# Altium footprint library DIP1543W47P254L5321H635Q40.PcbLib: 1 footprints
Each footprint in its own frame and in the unit in brackets; x right, y up, seen from the top. Pads: shape width x height; smd on the part's side, far side on the other; paste and mask are expansions set on the pad; w line width, h text height; cw(c..) or ccw(c..) is an arc to the next point about the centre after c.
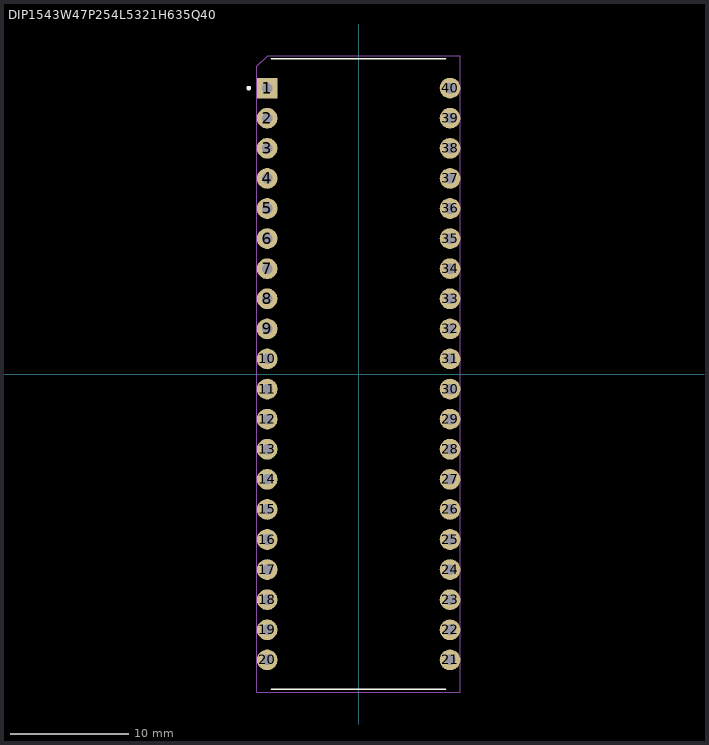
[diagram p0: the footprint, top view; thin cyan lines are the x and y axes]

## DIP1543W47P254L5321H635Q40 [mm]
height 1
pads (40):
  rect 1.75x1.75 hole 0.89: 1(-7.715,24.13)
  round 1.75 hole 0.89: 2(-7.715,21.59) 3(-7.715,19.05) 4(-7.715,16.51) 5(-7.715,13.97) 6(-7.715,11.43) 7(-7.715,8.89) 8(-7.715,6.35) 9(-7.715,3.81) 10(-7.715,1.27) 11(-7.715,-1.27) 12(-7.715,-3.81) 13(-7.715,-6.35) 14(-7.715,-8.89) 15(-7.715,-11.43) 16(-7.715,-13.97) 17(-7.715,-16.51) 18(-7.715,-19.05) 19(-7.715,-21.59) 20(-7.715,-24.13) 21(7.715,-24.13) 22(7.715,-21.59) 23(7.715,-19.05) 24(7.715,-16.51) 25(7.715,-13.97) 26(7.715,-11.43) 27(7.715,-8.89) 28(7.715,-6.35) 29(7.715,-3.81) 30(7.715,-1.27) 31(7.715,1.27) 32(7.715,3.81) 33(7.715,6.35) 34(7.715,8.89) 35(7.715,11.43) 36(7.715,13.97) 37(7.715,16.51) 38(7.715,19.05) 39(7.715,21.59) 40(7.715,24.13)
Top Overlay:
  circle w0.2: c-9.271,24.13 r0.1
  lines w0.127: -7.366,-26.607 7.366,-26.607 ; -7.366,26.607 7.366,26.607
Mechanical 3:
  lines w0.05: -8.585,-26.856 -8.585,25.959 -7.688,26.856 8.585,26.856 8.585,-26.856 -8.585,-26.856
Mechanical 9:
  text "'.Designator'" at -0.144,6.198 h1.02
3D body "step_temp.STEP": height 4.83, standoff -3.56, extent -8.255,-26.162 8.255,26.162
3D body: height 23.4, standoff -5, extent -8.636,-26.797 8.636,26.924